# Altium schematic symbol library ethernet.SchLib: 1 symbol
Pins are listed as number, name and electrical type; pins without a type are passive.

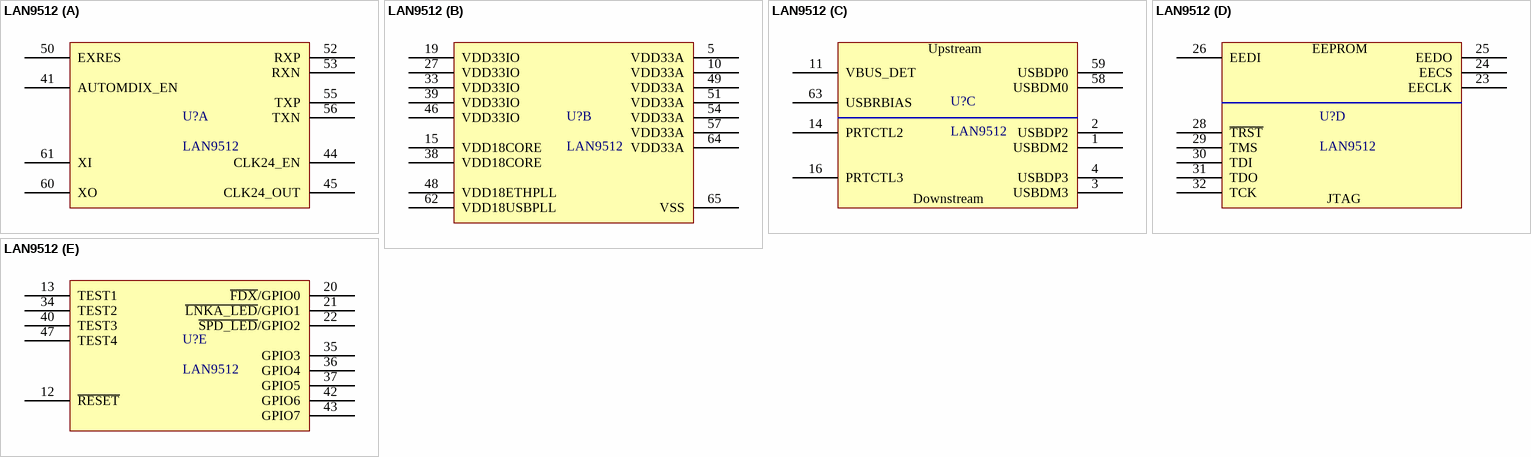
[diagram p0: symbol LAN9512]

## LAN9512
designator U?
USB 2.0 Hub and 10/100  Ethernet Controller; Supplier 1: Digi-Key; Supplier Part Number 1: 638-1086-ND
footprint QFN-64 (64-Pin QFN 0.5 mm Pitch)
part A pins: 41 AUTOMDIX_EN, 44 CLK24_EN, 45 CLK24_OUT, 50 EXRES, 52 RXP, 53 RXN, 55 TXP, 56 TXN, 60 XO, 61 XI
part B pins: 5 VDD33A, 10 VDD33A, 15 VDD18CORE, 19 VDD33IO, 27 VDD33IO, 33 VDD33IO, 38 VDD18CORE, 39 VDD33IO, 46 VDD33IO, 48 VDD18ETHPLL, 49 VDD33A, 51 VDD33A, 54 VDD33A, 57 VDD33A, 62 VDD18USBPLL, 64 VDD33A, 65 VSS
part C pins: 1 USBDM2, 2 USBDP2, 3 USBDM3, 4 USBDP3, 11 VBUS_DET, 14 PRTCTL2, 16 PRTCTL3, 58 USBDM0, 59 USBDP0, 63 USBRBIAS
part D pins: 23 EECLK, 24 EECS, 25 EEDO, 26 EEDI, 28 ~{TRST}, 29 TMS, 30 TDI, 31 TDO, 32 TCK
part E pins: 12 ~{RESET}, 13 TEST1, 20 ~{FDX}/GPIO0, 21 ~{LNKA_LED}/GPIO1, 22 ~{SPD_LED}/GPIO2, 34 TEST2, 35 GPIO3, 36 GPIO4, 37 GPIO5, 40 TEST3, 42 GPIO6, 43 GPIO7, 47 TEST4
part C text: Upstream; Downstream
part D text: EEPROM; JTAG